# Altium schematic symbol library INA219AID.SchLib: 1 symbol
Pins are listed as number, name and electrical type; pins without a type are passive.

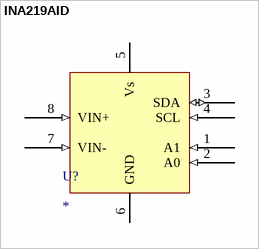
[diagram p0: symbol INA219AID]

## INA219AID
designator U?
pins: 1 A1 (in), 2 A0 (in), 3 SDA (io), 4 SCL (in), 5 Vs (power), 6 GND (power), 7 VIN- (in), 8 VIN+ (in)